# EAGLE library part ESB33535 (library ESB33535)
https://www.mouser.com/ProductDetail/Panasonic/ESB-33535?qs=sGAEpiMZZMvxtGF7dlGNpqFAhpnVnTs9L9zIBl1Au%2fw%3d Check availability <https://pricing.snapeda.com/parts/ESB33535/Panasonic/view-part?ref=eda>
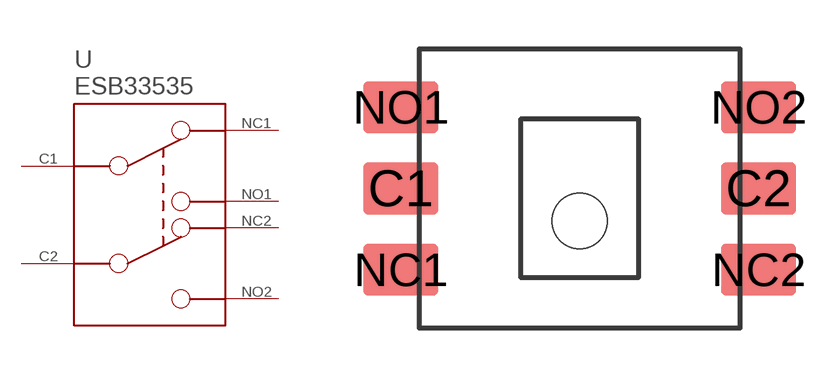
[diagram p0: symbol with the pads of ESB33535; footprint ESB33535]

Designator prefix -

## ESB33535 (Availability: In Stock; Check_prices: https://www.snapeda.com/parts/ESB33535/Panasonic/view-part/?ref=eda; Description: Switch Push Button N.O./N.C. DPDT Plunger 0.2A 14VDC Solder SMD Embossed T/R; MF: Panasonic; MP: ESB33535; Package: None; Price: None; Purchase-URL: https://pricing.snapeda.com/search?q=ESB33535&ref=eda; SnapEDA_Link: https://www.snapeda.com/parts/ESB33535/Panasonic/view-part/?ref=snap)  [ESB33535]
C1  C1
C2  C2
NC1  NC1
NC2  NC2
NO1  NO1
NO2  NO2

## Footprint ESB33535 (pad centres in mm)
smd 2.3 x 1.6: C1 -5.5,0; C2 5.5,0; NC1 -5.5,-2.5; NC2 5.5,-2.5; NO1 -5.5,2.5; NO2 5.5,2.5
hole 1.7 at 0,-1